# Altium footprint library led_rgb_smd3528-4p.PcbLib: 1 footprints
Each footprint in its own frame and in the unit in brackets; x right, y up, seen from the top. Pads: shape width x height; smd on the part's side, far side on the other; paste and mask are expansions set on the pad; w line width, h text height; cw(c..) or ccw(c..) is an arc to the next point about the centre after c.
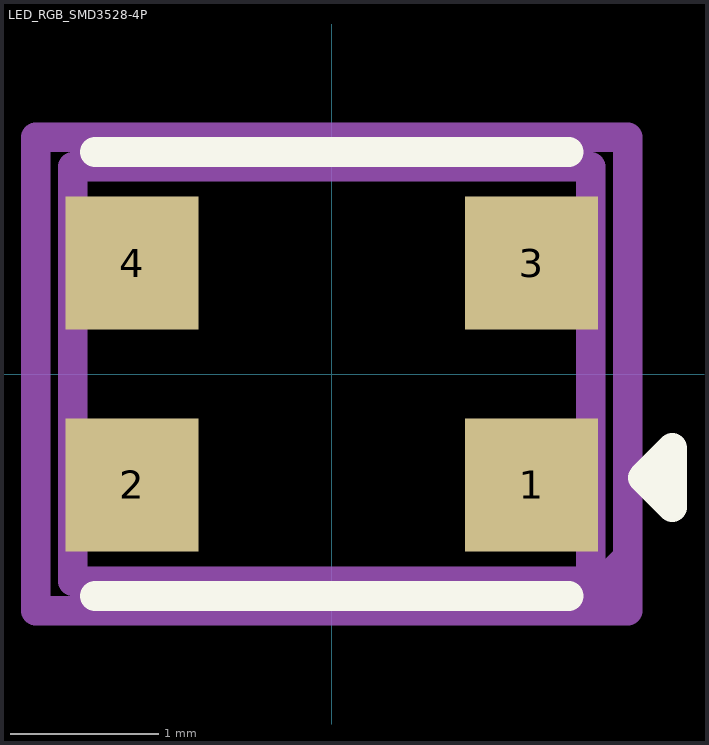
[diagram p0: the footprint, top view; thin cyan lines are the x and y axes]

## LED_RGB_SMD3528-4P [mm]
height 1.9
pads (4):
  rect 0.9x0.9 smd: 1(1.35,-0.75) 2(-1.35,-0.75) 3(1.35,0.75) 4(-1.35,0.75)
Top Overlay:
  lines w0.2: -1.6,-1.5 1.6,-1.5 ; -1.6,1.5 1.6,1.5 ; 2.1,-0.7 2.3,-0.5 2.3,-0.9 2.1,-0.7
Top 3D Body:
  lines w0.2: -1.75,-1.4 1.75,-1.4 1.75,1.4 -1.75,1.4 -1.75,-1.4
Top Courtyard:
  region: 2,-1.6 2,-1.1 1.5,-1.6
  lines w0.2: -2,-1.6 2,-1.6 2,1.6 -2,1.6 -2,-1.6
Top Designator (Mech17):
  text ".Designator" at -1.35,-0.25 h0.6
3D body "XL-3528RGBW-HM.step": height 1.9, standoff 0, extent -1.75,-1.4 1.75,1.4